# EAGLE library part HT1632 (library LED Matrix Treiber - HT1632C)
Name des Bauteiles: -->HT1632-C Daten:Daten? Artikelnummer:#keine feste Artikelnummer vorhanden / Atikel nicht lagermäßig vorhanden! Datenblatt:http://www.google.de/url?sa=t&rct=j&q=&esrc=s&source=web&cd=1&cad=rja&uact=8&ved=0CCYQFjAA&url=http%3A%2F%2Fwww.adafruit.com%2Fdatasheets%2Fht1632cv120.pdf&ei=S_W4VLnGHYaAUcPdgng&usg=AFQjCNEyb6XhabBIDvYaB_79TpDHE7-nhQ&bvm=bv.83829542,d.d24 __________________________________________ generated by Eagle Description Tool am : 16.01.2015 12:26:05 erstellt von: Wl
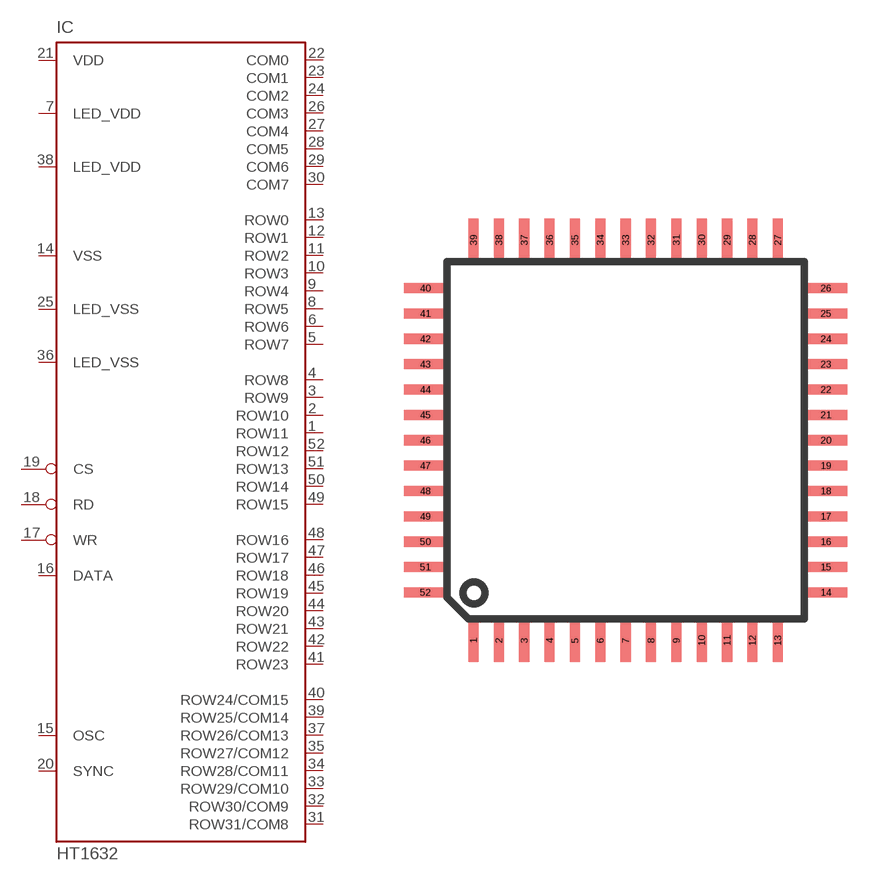
[diagram p0: symbol with the pads of 52PIN_OFP; footprint 52PIN_OFP]

Designator prefix IC

## HT1632-C  [52PIN_OFP]
1  ROW11  out
2  ROW10  out
3  ROW9  out
4  ROW8  out
5  ROW7
6  ROW6
7  LED_VDD  in
8  ROW5
9  ROW4
10  ROW3
11  ROW2
12  ROW1
13  ROW0
14  VSS
15  OSC
16  DATA
17  WR  in
18  RD  in
19  CS  in
20  SYNC  in
21  VDD
22  COM0
23  COM1
24  COM2
25  LED_VSS  in
26  COM3
27  COM4
28  COM5
29  COM6
30  COM7
31  ROW31/COM8
32  ROW30/COM9
33  ROW29/COM10
34  ROW28/COM11
35  ROW27/COM12
36  LED_VSS  in
37  ROW26/COM13
38  LED_VDD  in
39  ROW25/COM14
40  ROW24/COM15
41  ROW23
42  ROW22
43  ROW21
44  ROW20
45  ROW19
46  ROW18
47  ROW17
48  ROW16
49  ROW15  out
50  ROW14  out
51  ROW13  out
52  ROW12  out

## Footprint 52PIN_OFP (pad centres in mm)
smd 0.4 x 1.7: 1 -6,-7.9; 2 -5,-7.9; 3 -4,-7.9; 4 -3,-7.9; 5 -2,-7.9; 6 -1,-7.9; 7 0,-7.9; 8 1,-7.9; 9 2,-7.9; 10 3,-7.9; 11 4,-7.9; 12 5,-7.9; 13 6,-7.9; 27 6,7.9; 28 5,7.9; 29 4,7.9; 30 3,7.9; 31 2,7.9; 32 1,7.9; 33 0,7.9; 34 -1,7.9; 35 -2,7.9; 36 -3,7.9; 37 -4,7.9; 38 -5,7.9; 39 -6,7.9
smd 1.7 x 0.4: 14 7.9,-6; 15 7.9,-5; 16 7.9,-4; 17 7.9,-3; 18 7.9,-2; 19 7.9,-1; 20 7.9,0; 21 7.9,1; 22 7.9,2; 23 7.9,3; 24 7.9,4; 25 7.9,5; 26 7.9,6; 40 -7.9,6; 41 -7.9,5; 42 -7.9,4; 43 -7.9,3; 44 -7.9,2; 45 -7.9,1; 46 -7.9,0; 47 -7.9,-1; 48 -7.9,-2; 49 -7.9,-3; 50 -7.9,-4; 51 -7.9,-5; 52 -7.9,-6